# Altium footprint library JST_B2B-XH-A.PcbLib: 1 footprints
Each footprint in its own frame and in the unit in brackets; x right, y up, seen from the top. Pads: shape width x height; smd on the part's side, far side on the other; paste and mask are expansions set on the pad; w line width, h text height; cw(c..) or ccw(c..) is an arc to the next point about the centre after c.
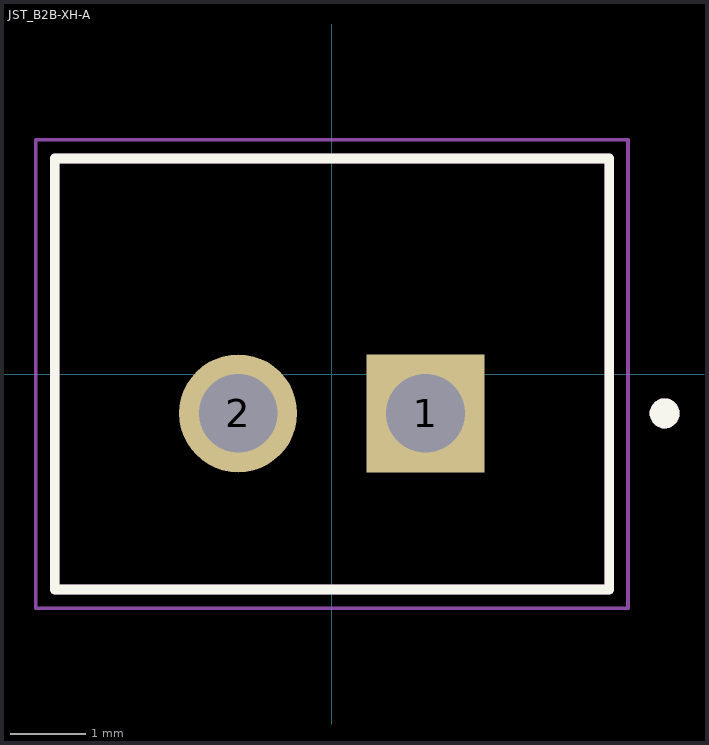
[diagram p0: the footprint, top view; thin cyan lines are the x and y axes]

## JST_B2B-XH-A [mm]
height 7
pads (2):
  rect 1.575x1.575 / inner round 1.575 / far side rect 1.575x1.575 hole 1.05: 1(1.25,-0.525)
  round 1.575 hole 1.05: 2(-1.25,-0.525)
Top Overlay:
  circle w0.2: c4.44,-0.525 r0.1
  lines w0.127: -3.7,-2.875 -3.7,2.875 3.7,2.875 3.7,-2.875 -3.7,-2.875
Mechanical 13:
  circle w0.2: c4.44,-0.525 r0.1
  lines w0.127: -3.7,-2.875 -3.7,2.875 3.7,2.875 3.7,-2.875 -3.7,-2.875
Mechanical 15:
  lines w0.05: -3.95,-3.125 3.95,-3.125 3.95,3.125 -3.95,3.125 -3.95,-3.125
3D body "B2B-XH-A--3DModel-STEP-56544.STEP": height 7.01, standoff -3.39, extent -3.7,-2.875 3.7,2.875